# EAGLE library part CM6317A (library cmedia)
CM6317A is C-Media's new Audio SOC IC. It contains high performance stereo ADC, and have various interface like I2C, allowing all kinds of Microprocessor or DSP to communicate. Especially in advanced VOIP applications. CM6317A could give you low noise and high quality speech input solution, thus, when it comes to conference or public speech, it would be wonderful choice for you. Also, CM6317A integrates all essential analog, 2CH ADC, PLL, regulator , USB transceiver, with EEPROM to customize your own product string, PID and VID. CM6317A support 8 / 11.025 / 16 / 22.05 / 32 / 44.1 / 48 KHz sampling rate and high quality 16-bit resolution and friendly General purpose inputs and outputs for customized functions. Also there are many features could be programmable with external EEPROM and MCU. External MCU / EEPROM could be easily controlled via HID software interface.
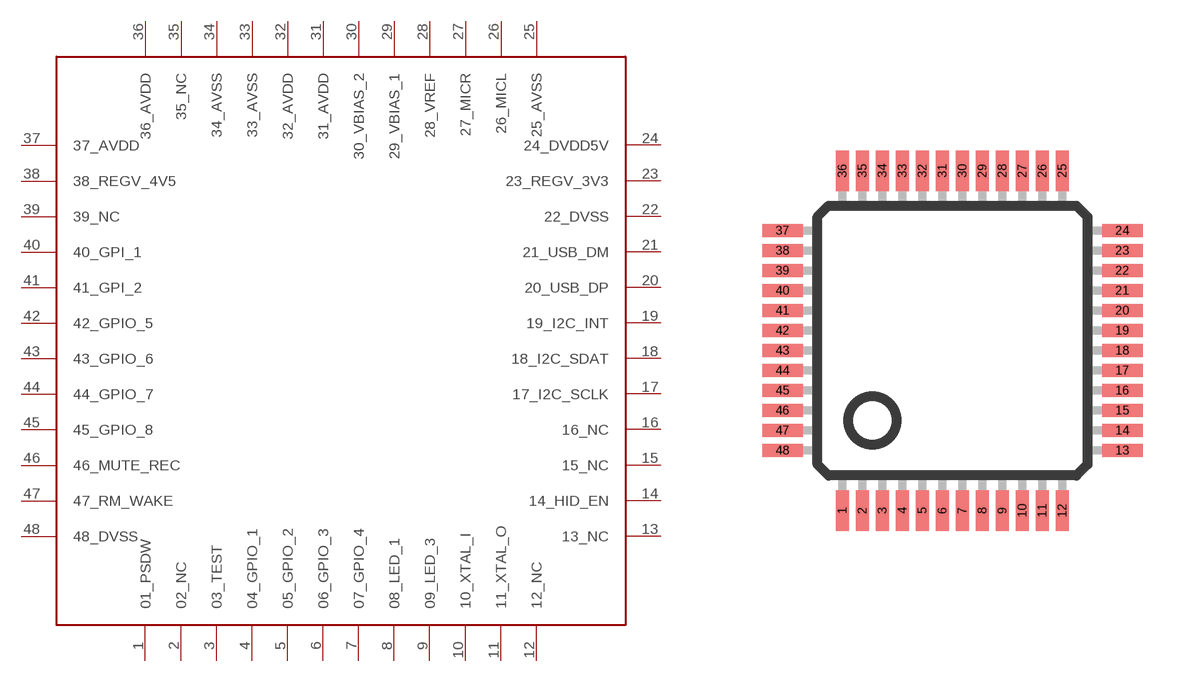
[diagram p1: symbol with the pads of LQFP-48; footprint LQFP-48]

Designator prefix -

## CM6317A  [LQFP-48]
1  01_PSDW
2  02_NC
3  03_TEST
4  04_GPIO_1
5  05_GPIO_2
6  06_GPIO_3
7  07_GPIO_4
8  08_LED_1
9  09_LED_3
10  10_XTAL_I
11  11_XTAL_O
12  12_NC
13  13_NC
14  14_HID_EN
15  15_NC
16  16_NC
17  17_I2C_SCLK
18  18_I2C_SDAT
19  19_I2C_INT
20  20_USB_DP
21  21_USB_DM
22  22_DVSS
23  23_REGV_3V3
24  24_DVDD5V
25  25_AVSS
26  26_MICL
27  27_MICR
28  28_VREF
29  29_VBIAS_1
30  30_VBIAS_2
31  31_AVDD
32  32_AVDD
33  33_AVSS
34  34_AVSS
35  35_NC
36  36_AVDD
37  37_AVDD
38  38_REGV_4V5
39  39_NC
40  40_GPI_1
41  41_GPI_2
42  42_GPIO_5
43  43_GPIO_6
44  44_GPIO_7
45  45_GPIO_8
46  46_MUTE_REC
47  47_RM_WAKE
48  48_DVSS

## Footprint LQFP-48 (pad centres in mm)
smd 0.318 x 1.016: 1 -2.75,-4.25; 2 -2.25,-4.25; 3 -1.75,-4.25; 4 -1.25,-4.25; 5 -0.75,-4.25; 6 -0.25,-4.25; 7 0.25,-4.25; 8 0.75,-4.25; 9 1.25,-4.25; 10 1.75,-4.25; 11 2.25,-4.25; 12 2.75,-4.25; 25 2.75,4.25; 26 2.25,4.25; 27 1.75,4.25; 28 1.25,4.25; 29 0.75,4.25; 30 0.25,4.25; 31 -0.25,4.25; 32 -0.75,4.25; 33 -1.25,4.25; 34 -1.75,4.25; 35 -2.25,4.25; 36 -2.75,4.25
smd 1.016 x 0.318: 13 4.25,-2.75; 14 4.25,-2.25; 15 4.25,-1.75; 16 4.25,-1.25; 17 4.25,-0.75; 18 4.25,-0.25; 19 4.25,0.25; 20 4.25,0.75; 21 4.25,1.25; 22 4.25,1.75; 23 4.25,2.25; 24 4.25,2.75; 37 -4.25,2.75; 38 -4.25,2.25; 39 -4.25,1.75; 40 -4.25,1.25; 41 -4.25,0.75; 42 -4.25,0.25; 43 -4.25,-0.25; 44 -4.25,-0.75; 45 -4.25,-1.25; 46 -4.25,-1.75; 47 -4.25,-2.25; 48 -4.25,-2.75